# Altium schematic symbol library InvertorSchLib.SchLib: 21 symbols
Pins are listed as number, name and electrical type; pins without a type are passive.

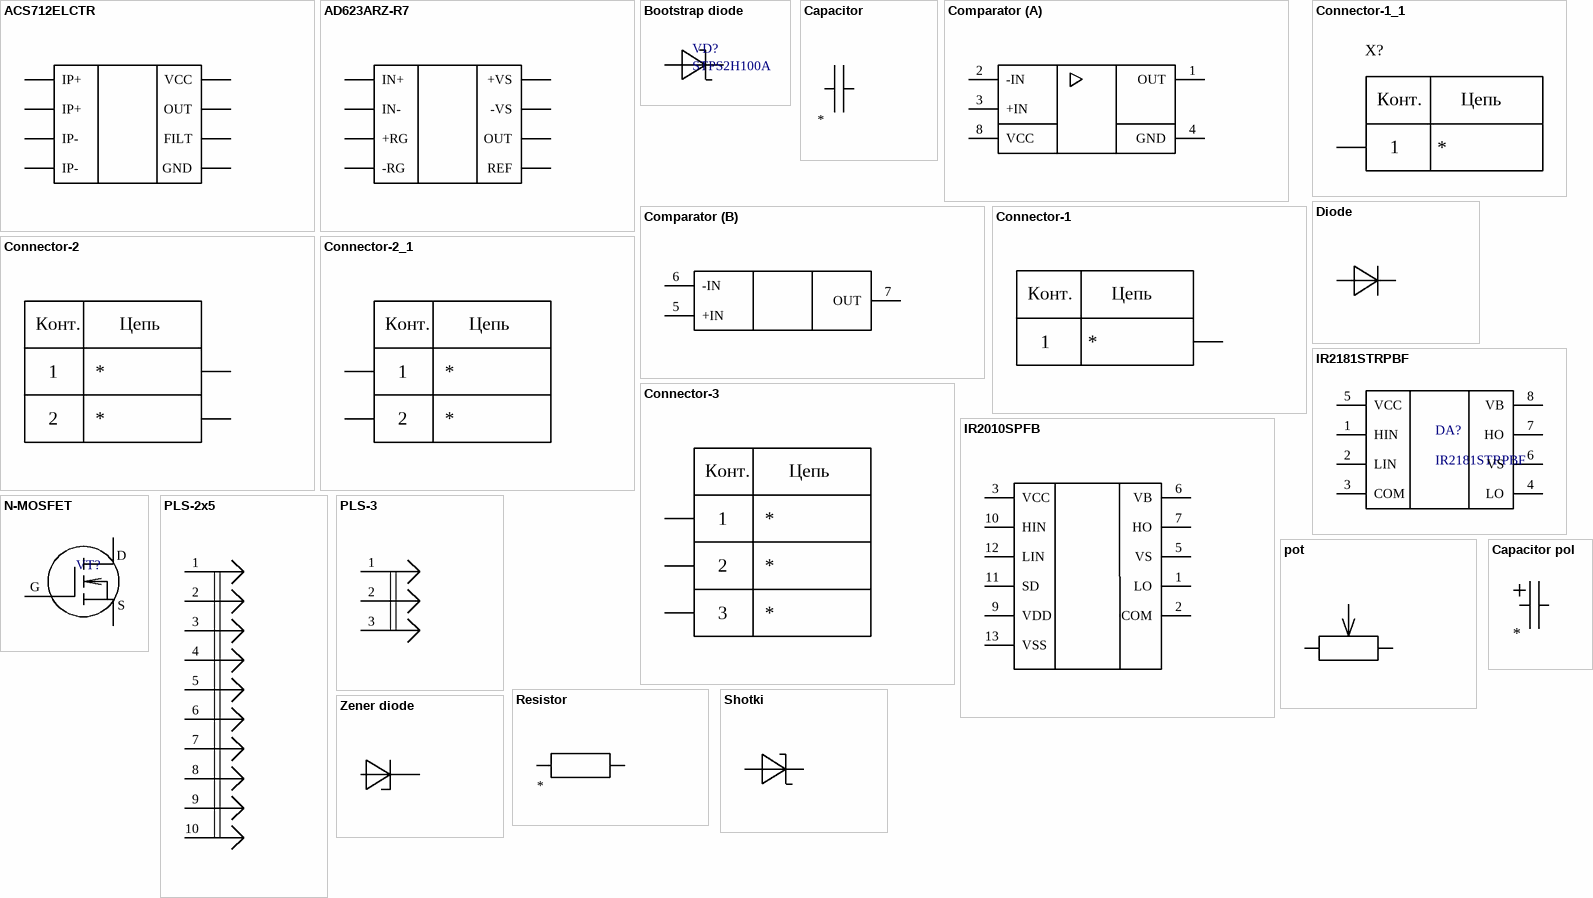
[diagram p0: symbols ACS712ELCTR to Сapacitor pol]

## ACS712ELCTR
designator DA?
ComponentLink1Description: Product link; ComponentLink1URL: https://www.chipdip.ru/product/acs712elctr-30a-t
footprint SO8
pins: 1 IP+, 2 IP+, 3 IP-, 4 IP-, 5 GND, 6 FILT, 7 OUT, 8 VCC

## AD623ARZ-R7
designator DA?, comment AD623ARZ
ComponentLink1Description: Product link; ComponentLink1URL: https://www.platan.ru/cgi-bin/qwery.pl/id=2010029983; Datasheet: https://doc.platan.ru/pdf/datasheets/analogdevices/AD623-877194.pdf
footprint SO8
pins: 1 -RG, 2 IN-, 3 IN+, 4 -VS, 5 REF, 6 OUT, 7 +VS, 8 +RG

## Bootstrap diode
designator VD?, comment STPS2H100A
ComponentLink1Description: Product link; ComponentLink1URL: https://www.chipdip.ru/product/stps2h100a-2
footprint D0-124AC
pins: A, C

## Capacitor
designator C?
ComponentLink1Description: Product link; ComponentLink1URL: *; Value: *
footprint 1812С
footprint 0805
footprint 1210C
footprint C0402C
footprint C0603C
pins: 1, 2

## Comparator
designator DA?
ComponentLink1Description: Product link
footprint SO8
part A pins: 1 OUT, 2 -IN, 3 +IN, 4 GND, 8 VCC
part B pins: 5 +IN, 6 -IN, 7 OUT

## Connector-1
designator X?
ComponentLink1Description: Product link; Name: *
footprint PCBM4
pins: 1
text: Конт.; Цепь

## Connector-1_1
designator X?
ComponentLink1Description: Product link; Name: *
footprint PCBM4
pins: 1
text: Конт.; Цепь

## Connector-2
designator X?, comment DG950-02
ComponentLink1Description: Product link; ComponentLink1URL: https://www.chipdip.ru/product/stps2h100a-2; Value 2: *; Value 1: *
footprint DG950-02
footprint KF300-5-2
pins: 1, 2
text: Конт.; Цепь

## Connector-2_1
designator X?, comment DG950-02
ComponentLink1Description: Product link; ComponentLink1URL: https://www.chipdip.ru/product/stps2h100a-2; Value 2: *; Value 1: *
footprint KF300-5-2
pins: 1, 2
text: Конт.; Цепь

## Connector-3
designator X?
ComponentLink1Description: Product link; ComponentLink1URL: https://www.chipdip.ru/product/stps2h100a-2; Value 3: *; Value 2: *; Value 1: *
footprint DG301-5-03
pins: 1, 2, 3
text: Конт.; Цепь

## Diode
designator VD?
ComponentLink1Description: Product link
footprint SOD123
pins: A, C

## IR2010SPFB
designator DA?, comment IR2010PFB
ComponentLink1Description: Product link; ComponentLink1URL: https://www.chipdip.ru/product/ir2010s
footprint SOIC16
footprint DIP14
pins: 1 LO, 2 COM, 3 VCC, 5 VS, 6 VB, 7 HO, 9 VDD, 10 HIN, 11 SD, 12 LIN, 13 VSS

## IR2181STRPBF
designator DA?
ComponentLink1Description: Product link; ComponentLink1URL: https://www.chipdip.ru/product/ir2181strpbf-h-l-driver-600
footprint SO8
pins: 1 HIN, 2 LIN, 3 COM, 4 LO, 5 VCC, 6 VS, 7 HO, 8 VB

## N-MOSFET
designator VT?  (value not drawn)
ComponentLink1Description: Product link; ComponentLink1URL: https://www.chipdip.ru/product/irfb4310zpbf
footprint TO247-1
footprint TO247-2
pins: D, G, S

## PLS-2x5
designator X?
ComponentLink1Description: Product link
footprint PLS-2x5
pins: 1, 2, 3, 4, 5, 6, 7, 8, 9, 10

## PLS-3
designator X?
ComponentLink1Description: Product link
footprint PLS3
pins: 1, 2, 3

## pot
designator R?
ComponentLink1Description: Product link
footprint 3296W
pins: 1, 2, 3

## Resistor
designator R?
ComponentLink1Description: Product link; ComponentLink1URL: *; Power: *; Value: *
footprint 2512R
footprint 0402R
footprint 2816R
pins: 1, 2

## Shotki
designator VD?
ComponentLink1Description: Product link
footprint D0-124AC
footprint DO-214AA
pins: A, C

## Zener diode
designator VD?
ComponentLink1Description: Product link; ComponentLink1URL: *
footprint SOD323
pins: A, C

## Сapacitor pol
designator C?
ComponentLink1Description: Product link; ComponentLink1URL: *; Type: *; value: *
footprint 0805
footprint 6032-28
footprint 3216-18(А)
footprint CAP-10
pins: 1, 2